# Altium footprint library ICs and SemiConductors.PcbLib: 61 footprints (part 3 of 4)
Each footprint in its own frame and in the unit in brackets; x right, y up, seen from the top. Pads: shape width x height; smd on the part's side, far side on the other; paste and mask are expansions set on the pad; w line width, h text height; cw(c..) or ccw(c..) is an arc to the next point about the centre after c.
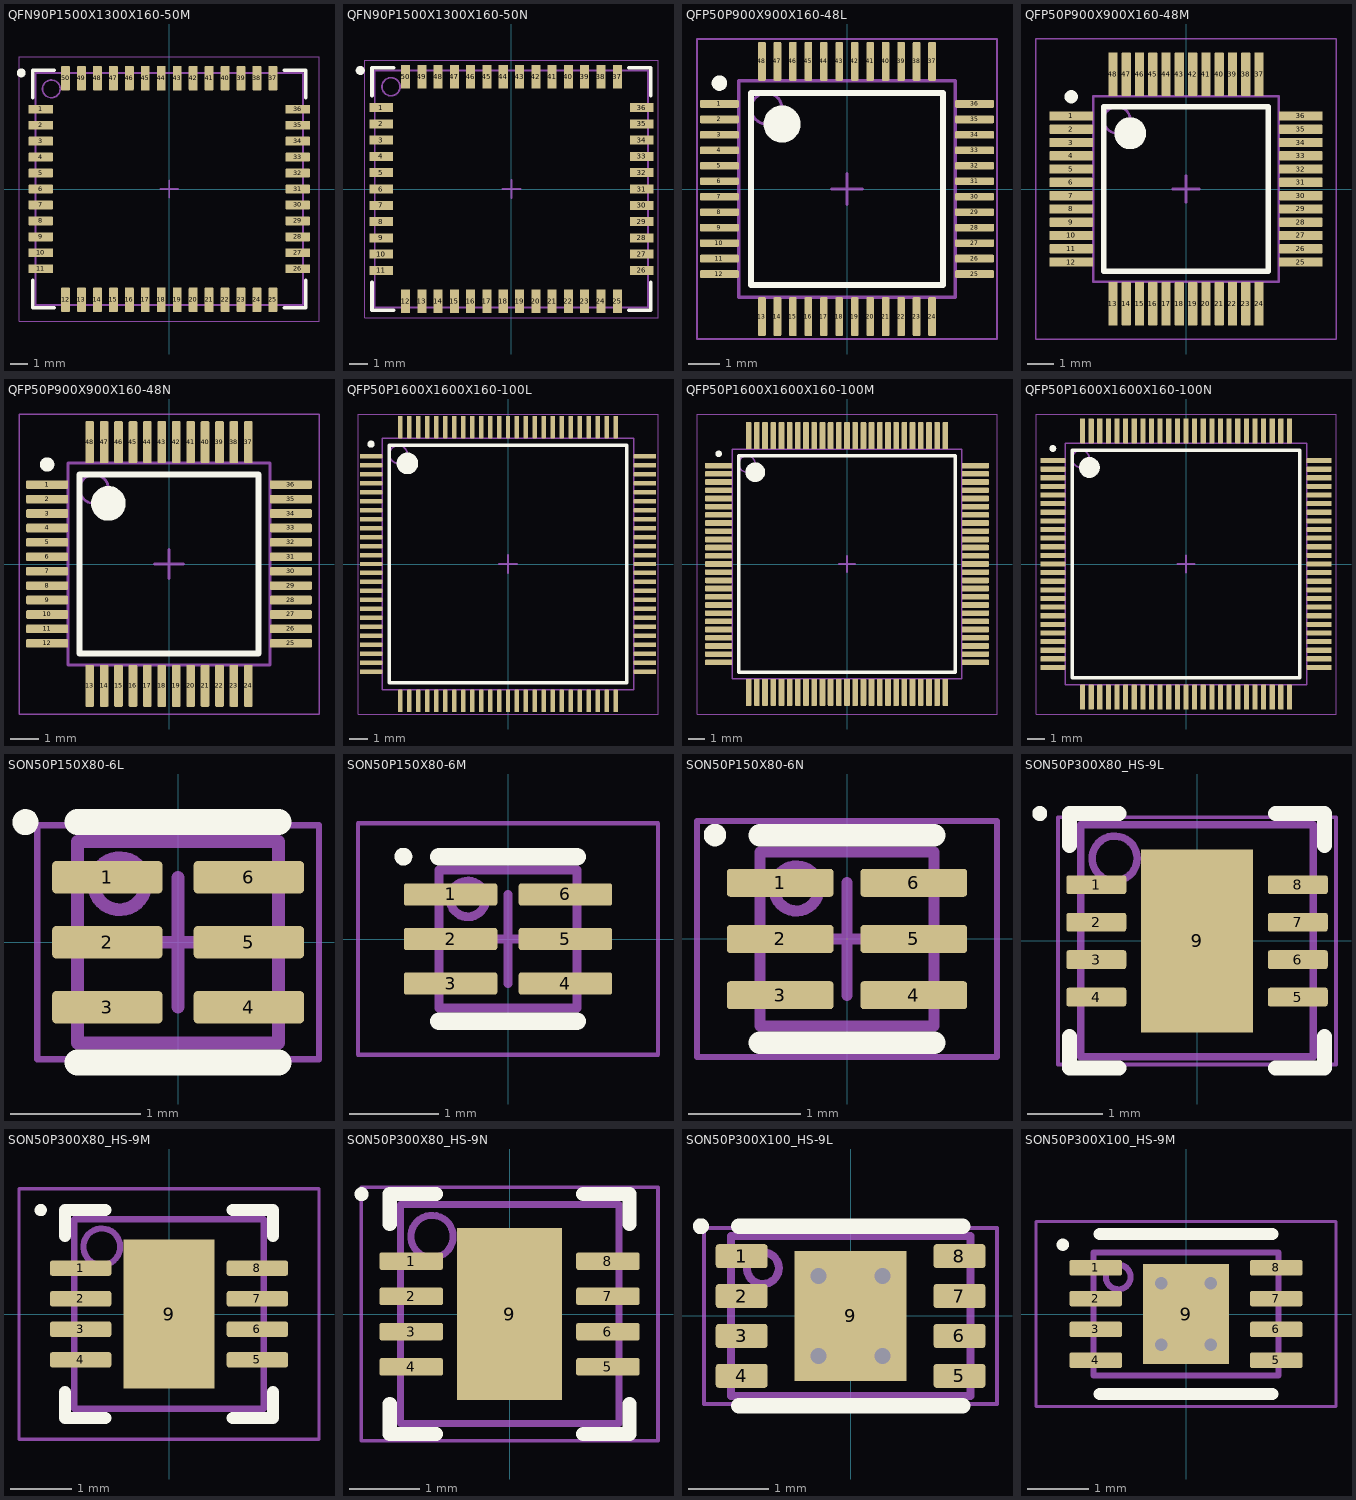
[diagram p2: the footprints below, top view; thin cyan lines are the x and y axes]

## QFN90P1500X1300X160-50M [mm] "QFN, 50-Leads, Body 15.00x13.00mm, Pitch 0.90mm, IPC Low Density"
height 1.6
pads (50):
  rrect25% 1.4x0.5 smd paste+0 mask+0.05: 1(-7.25,4.5) 2(-7.25,3.6) 3(-7.25,2.7) 4(-7.25,1.8) 5(-7.25,0.9) 6(-7.25,0) 7(-7.25,-0.9) 8(-7.25,-1.8) 9(-7.25,-2.7) 10(-7.25,-3.6) 11(-7.25,-4.5) 26(7.25,-4.5) 27(7.25,-3.6) 28(7.25,-2.7) 29(7.25,-1.8) 30(7.25,-0.9) 31(7.25,0) 32(7.25,0.9) 33(7.25,1.8) 34(7.25,2.7) 35(7.25,3.6) 36(7.25,4.5)
  rrect25% 0.5x1.4 smd paste+0 mask+0.05: 12(-5.85,-6.25) 13(-4.95,-6.25) 14(-4.05,-6.25) 15(-3.15,-6.25) 16(-2.25,-6.25) 17(-1.35,-6.25) 18(-0.45,-6.25) 19(0.45,-6.25) 20(1.35,-6.25) 21(2.25,-6.25) 22(3.15,-6.25) 23(4.05,-6.25) 24(4.95,-6.25) 25(5.85,-6.25) 37(5.85,6.25) 38(4.95,6.25) 39(4.05,6.25) 40(3.15,6.25) 41(2.25,6.25) 42(1.35,6.25) 43(0.45,6.25) 44(-0.45,6.25) 45(-1.35,6.25) 46(-2.25,6.25) 47(-3.15,6.25) 48(-4.05,6.25) 49(-4.95,6.25) 50(-5.85,6.25)
Top Overlay:
  circle w0.25: c-8.35,6.55 r0.125
  lines w0.2: -7.7,-5.15 -7.7,-6.7 -6.5,-6.7 ; -7.7,5.15 -7.7,6.7 -6.5,6.7 ; 6.5,-6.7 7.7,-6.7 7.7,-5.15 ; 6.5,6.7 7.7,6.7 7.7,5.15
Top Component Outline:
  lines w0.1: -7.55,-6.55 7.55,-6.55 7.55,6.55 -7.55,6.55 -7.55,-6.55
Top Courtyard:
  lines w0.05: -8.45,-7.45 -8.45,7.45 8.45,7.45 8.45,-7.45 -8.45,-7.45
Top Component Center:
  lines w0.1: -0.5,0 0.5,0 ; 0,-0.5 0,0.5
Top Designator:
  text ".Designator" at -4.04,-0.476 h2
Top Assembly:
  circle w0.1: c-6.65,5.65 r0.5
  lines w0.1: -7.55,-6.55 -7.55,6.55 7.55,6.55 7.55,-6.55 -7.55,-6.55
  text ".Designator" at -4.04,-0.476 h2
3D body "QFN90P1500X1300X160-50N.step": height 1.6, standoff 0, extent -7.551,-6.551 7.551,6.551

## QFN90P1500X1300X160-50N [mm] "QFN, 50-Leads, Body 15.00x13.00mm, Pitch 0.90mm, IPC Medium Density"
height 1.6
pads (50):
  rect 1.3x0.5 smd paste+0 mask+0.05: 1(-7.2,4.5) 2(-7.2,3.6) 3(-7.2,2.7) 4(-7.2,1.8) 5(-7.2,0.9) 6(-7.2,0) 7(-7.2,-0.9) 8(-7.2,-1.8) 9(-7.2,-2.7) 10(-7.2,-3.6) 11(-7.2,-4.5) 26(7.2,-4.5) 27(7.2,-3.6) 28(7.2,-2.7) 29(7.2,-1.8) 30(7.2,-0.9) 31(7.2,0) 32(7.2,0.9) 33(7.2,1.8) 34(7.2,2.7) 35(7.2,3.6) 36(7.2,4.5)
  rect 0.5x1.3 smd paste+0 mask+0.05: 12(-5.85,-6.2) 13(-4.95,-6.2) 14(-4.05,-6.2) 15(-3.15,-6.2) 16(-2.25,-6.2) 17(-1.35,-6.2) 18(-0.45,-6.2) 19(0.45,-6.2) 20(1.35,-6.2) 21(2.25,-6.2) 22(3.15,-6.2) 23(4.05,-6.2) 24(4.95,-6.2) 25(5.85,-6.2) 37(5.85,6.2) 38(4.95,6.2) 39(4.05,6.2) 40(3.15,6.2) 41(2.25,6.2) 42(1.35,6.2) 43(0.45,6.2) 44(-0.45,6.2) 45(-1.35,6.2) 46(-2.25,6.2) 47(-3.15,6.2) 48(-4.05,6.2) 49(-4.95,6.2) 50(-5.85,6.2)
Top Overlay:
  circle w0.25: c-8.35,6.55 r0.125
  lines w0.2: -7.7,-5.15 -7.7,-6.7 -6.5,-6.7 ; -7.7,5.15 -7.7,6.7 -6.5,6.7 ; 6.5,-6.7 7.7,-6.7 7.7,-5.15 ; 6.5,6.7 7.7,6.7 7.7,5.15
Top Component Outline:
  lines w0.1: -7.55,-6.55 -7.55,6.55 7.55,6.55 7.55,-6.55 -7.55,-6.55
Top Courtyard:
  lines w0.05: -8.1,-7.1 -8.1,7.1 8.1,7.1 8.1,-7.1 -8.1,-7.1
Top Component Center:
  lines w0.1: -0.5,0 0.5,0 ; 0,-0.5 0,0.5
Top Designator:
  text ".Designator" at -4.04,-0.476 h2
Top Assembly:
  circle w0.1: c-6.65,5.65 r0.5
  lines w0.1: -7.55,-6.55 -7.55,6.55 7.55,6.55 7.55,-6.55 -7.55,-6.55
  text ".Designator" at -4.04,-0.476 h2
3D body "QFN90P1500X1300X160-50N.step": height 1.6, standoff 0, extent -7.551,-6.551 7.551,6.551

## QFP50P900X900X160-48L [mm] "TSQFP, 48-Leads, Body 7.00x7.00mm, Pitch 0.50mm, IPC High Density"
height 1.6
pads (48):
  rrect25% 1.25x0.25 smd paste+0 mask+0.05: 1(-4.125,2.75) 2(-4.125,2.25) 3(-4.125,1.75) 4(-4.125,1.25) 5(-4.125,0.75) 6(-4.125,0.25) 7(-4.125,-0.25) 8(-4.125,-0.75) 9(-4.125,-1.25) 10(-4.125,-1.75) 11(-4.125,-2.25) 12(-4.125,-2.75) 25(4.125,-2.75) 26(4.125,-2.25) 27(4.125,-1.75) 28(4.125,-1.25) 29(4.125,-0.75) 30(4.125,-0.25) 31(4.125,0.25) 32(4.125,0.75) 33(4.125,1.25) 34(4.125,1.75) 35(4.125,2.25) 36(4.125,2.75)
  rrect25% 0.25x1.25 smd paste+0 mask+0.05: 13(-2.75,-4.125) 14(-2.25,-4.125) 15(-1.75,-4.125) 16(-1.25,-4.125) 17(-0.75,-4.125) 18(-0.25,-4.125) 19(0.25,-4.125) 20(0.75,-4.125) 21(1.25,-4.125) 22(1.75,-4.125) 23(2.25,-4.125) 24(2.75,-4.125) 37(2.75,4.125) 38(2.25,4.125) 39(1.75,4.125) 40(1.25,4.125) 41(0.75,4.125) 42(0.25,4.125) 43(-0.25,4.125) 44(-0.75,4.125) 45(-1.25,4.125) 46(-1.75,4.125) 47(-2.25,4.125) 48(-2.75,4.125)
Top Overlay:
  circle w0.25: c-4.125,3.425 r0.125
  circle w0.6: c-2.1,2.1 r0.3
  lines w0.2: -3.1,-3.1 -3.1,3.1 3.1,3.1 3.1,-3.1 -3.1,-3.1
Top Component Outline:
  lines w0.1: -3.5,-3.5 -3.5,3.5 3.5,3.5 3.5,-3.5 -3.5,-3.5
Top Courtyard:
  lines w0.05: -4.85,-4.85 -4.85,4.85 4.85,4.85 4.85,-4.85 -4.85,-4.85
Top Component Center:
  lines w0.1: -0.5,0 0.5,0 ; 0,-0.5 0,0.5
Top Designator:
  text ".Designator" at -4.04,-0.476 h2
Top Assembly:
  circle w0.1: c-2.6,2.6 r0.5
  lines w0.1: -3.5,-3.5 -3.5,3.5 3.5,3.5 3.5,-3.5 -3.5,-3.5
  text ".Designator" at -4.04,-0.476 h2
3D body "QFP50P900X900X160-48N.step": height 1.6, standoff 0, extent -4.5,-4.5 4.5,4.5

## QFP50P900X900X160-48M [mm] "TSQFP, 48-Leads, Body 7.00x7.00mm, Pitch 0.50mm, IPC Low Density"
height 1.6
pads (48):
  rrect25% 1.65x0.35 smd paste+0 mask+0.05: 1(-4.325,2.75) 2(-4.325,2.25) 3(-4.325,1.75) 4(-4.325,1.25) 5(-4.325,0.75) 6(-4.325,0.25) 7(-4.325,-0.25) 8(-4.325,-0.75) 9(-4.325,-1.25) 10(-4.325,-1.75) 11(-4.325,-2.25) 12(-4.325,-2.75) 25(4.325,-2.75) 26(4.325,-2.25) 27(4.325,-1.75) 28(4.325,-1.25) 29(4.325,-0.75) 30(4.325,-0.25) 31(4.325,0.25) 32(4.325,0.75) 33(4.325,1.25) 34(4.325,1.75) 35(4.325,2.25) 36(4.325,2.75)
  rrect25% 0.35x1.65 smd paste+0 mask+0.05: 13(-2.75,-4.325) 14(-2.25,-4.325) 15(-1.75,-4.325) 16(-1.25,-4.325) 17(-0.75,-4.325) 18(-0.25,-4.325) 19(0.25,-4.325) 20(0.75,-4.325) 21(1.25,-4.325) 22(1.75,-4.325) 23(2.25,-4.325) 24(2.75,-4.325) 37(2.75,4.325) 38(2.25,4.325) 39(1.75,4.325) 40(1.25,4.325) 41(0.75,4.325) 42(0.25,4.325) 43(-0.25,4.325) 44(-0.75,4.325) 45(-1.25,4.325) 46(-1.75,4.325) 47(-2.25,4.325) 48(-2.75,4.325)
Top Overlay:
  circle w0.6: c-2.1,2.1 r0.3
  circle w0.25: c-4.325,3.475 r0.125
  lines w0.2: -3.1,-3.1 3.1,-3.1 3.1,3.1 -3.1,3.1 -3.1,-3.1
Top Component Outline:
  lines w0.1: -3.5,-3.5 3.5,-3.5 3.5,3.5 -3.5,3.5 -3.5,-3.5
Top Courtyard:
  lines w0.05: -5.65,-5.65 5.65,-5.65 5.65,5.65 -5.65,5.65 -5.65,-5.65
Top Component Center:
  lines w0.1: -0.5,0 0.5,0 ; 0,-0.5 0,0.5
Top Designator:
  text ".Designator" at -4.04,-0.476 h2
Top Assembly:
  circle w0.1: c-2.6,2.6 r0.5
  lines w0.1: -3.5,-3.5 3.5,-3.5 3.5,3.5 -3.5,3.5 -3.5,-3.5
  text ".Designator" at -4.04,-0.476 h2
3D body "QFP50P900X900X160-48N.step": height 1.6, standoff 0, extent -4.5,-4.5 4.5,4.5

## QFP50P900X900X160-48N [mm] "TSQFP, 48-Leads, Body 7.00x7.00mm, Pitch 0.50mm, IPC Medium Density"
height 1.6
pads (48):
  rrect25% 1.45x0.3 smd paste+0 mask+0.05: 1(-4.225,2.75) 2(-4.225,2.25) 3(-4.225,1.75) 4(-4.225,1.25) 5(-4.225,0.75) 6(-4.225,0.25) 7(-4.225,-0.25) 8(-4.225,-0.75) 9(-4.225,-1.25) 10(-4.225,-1.75) 11(-4.225,-2.25) 12(-4.225,-2.75) 25(4.225,-2.75) 26(4.225,-2.25) 27(4.225,-1.75) 28(4.225,-1.25) 29(4.225,-0.75) 30(4.225,-0.25) 31(4.225,0.25) 32(4.225,0.75) 33(4.225,1.25) 34(4.225,1.75) 35(4.225,2.25) 36(4.225,2.75)
  rrect25% 0.3x1.45 smd paste+0 mask+0.05: 13(-2.75,-4.225) 14(-2.25,-4.225) 15(-1.75,-4.225) 16(-1.25,-4.225) 17(-0.75,-4.225) 18(-0.25,-4.225) 19(0.25,-4.225) 20(0.75,-4.225) 21(1.25,-4.225) 22(1.75,-4.225) 23(2.25,-4.225) 24(2.75,-4.225) 37(2.75,4.225) 38(2.25,4.225) 39(1.75,4.225) 40(1.25,4.225) 41(0.75,4.225) 42(0.25,4.225) 43(-0.25,4.225) 44(-0.75,4.225) 45(-1.25,4.225) 46(-1.75,4.225) 47(-2.25,4.225) 48(-2.75,4.225)
Top Overlay:
  circle w0.6: c-2.1,2.1 r0.3
  circle w0.25: c-4.225,3.45 r0.125
  lines w0.2: -3.1,-3.1 3.1,-3.1 3.1,3.1 -3.1,3.1 -3.1,-3.1
Top Component Outline:
  lines w0.1: -3.5,-3.5 3.5,-3.5 3.5,3.5 -3.5,3.5 -3.5,-3.5
Top Courtyard:
  lines w0.05: -5.2,-5.2 5.2,-5.2 5.2,5.2 -5.2,5.2 -5.2,-5.2
Top Component Center:
  lines w0.1: -0.5,0 0.5,0 ; 0,-0.5 0,0.5
Top Designator:
  text ".Designator" at -4.04,-0.476 h2
Top Assembly:
  circle w0.1: c-2.6,2.6 r0.5
  lines w0.1: -3.5,-3.5 3.5,-3.5 3.5,3.5 -3.5,3.5 -3.5,-3.5
  text ".Designator" at -4.04,-0.476 h2
3D body "QFP50P900X900X160-48N.step": height 1.6, standoff 0, extent -4.5,-4.5 4.5,4.5

## QFP50P1600X1600X160-100L [mm] "LQFP, 100-Leads, Body 14.00x14.00mm, Pitch 0.50mm, IPC High Density"
height 1.6
pads (100):
  rrect25% 1.25x0.25 smd paste+0 mask+0.05: 1(-7.625,6) 2(-7.625,5.5) 3(-7.625,5) 4(-7.625,4.5) 5(-7.625,4) 6(-7.625,3.5) 7(-7.625,3) 8(-7.625,2.5) 9(-7.625,2) 10(-7.625,1.5) 11(-7.625,1) 12(-7.625,0.5) 13(-7.625,0) 14(-7.625,-0.5) 15(-7.625,-1) 16(-7.625,-1.5) 17(-7.625,-2) 18(-7.625,-2.5) 19(-7.625,-3) 20(-7.625,-3.5) 21(-7.625,-4) 22(-7.625,-4.5) 23(-7.625,-5) 24(-7.625,-5.5) 25(-7.625,-6) 51(7.625,-6) 52(7.625,-5.5) 53(7.625,-5) 54(7.625,-4.5) 55(7.625,-4) 56(7.625,-3.5) 57(7.625,-3) 58(7.625,-2.5) 59(7.625,-2) 60(7.625,-1.5) 61(7.625,-1) 62(7.625,-0.5) 63(7.625,0) 64(7.625,0.5) 65(7.625,1) 66(7.625,1.5) 67(7.625,2) 68(7.625,2.5) 69(7.625,3) 70(7.625,3.5) 71(7.625,4) 72(7.625,4.5) 73(7.625,5) 74(7.625,5.5) 75(7.625,6)
  rrect25% 0.25x1.25 smd paste+0 mask+0.05: 26(-6,-7.625) 27(-5.5,-7.625) 28(-5,-7.625) 29(-4.5,-7.625) 30(-4,-7.625) 31(-3.5,-7.625) 32(-3,-7.625) 33(-2.5,-7.625) 34(-2,-7.625) 35(-1.5,-7.625) 36(-1,-7.625) 37(-0.5,-7.625) 38(0,-7.625) 39(0.5,-7.625) 40(1,-7.625) 41(1.5,-7.625) 42(2,-7.625) 43(2.5,-7.625) 44(3,-7.625) 45(3.5,-7.625) 46(4,-7.625) 47(4.5,-7.625) 48(5,-7.625) 49(5.5,-7.625) 50(6,-7.625) 76(6,7.625) 77(5.5,7.625) 78(5,7.625) 79(4.5,7.625) 80(4,7.625) 81(3.5,7.625) 82(3,7.625) 83(2.5,7.625) 84(2,7.625) 85(1.5,7.625) 86(1,7.625) 87(0.5,7.625) 88(0,7.625) 89(-0.5,7.625) 90(-1,7.625) 91(-1.5,7.625) 92(-2,7.625) 93(-2.5,7.625) 94(-3,7.625) 95(-3.5,7.625) 96(-4,7.625) 97(-4.5,7.625) 98(-5,7.625) 99(-5.5,7.625) 100(-6,7.625)
Top Overlay:
  circle w0.2: c-7.625,6.675 r0.1
  circle w0.6: c-5.6,5.6 r0.3
  lines w0.2: -6.6,-6.6 -6.6,6.6 6.6,6.6 6.6,-6.6 -6.6,-6.6
Top Component Outline:
  lines w0.1: -7,-7 -7,7 7,7 7,-7 -7,-7
Top Courtyard:
  lines w0.05: -8.35,-8.35 -8.35,8.35 8.35,8.35 8.35,-8.35 -8.35,-8.35
Top Component Center:
  lines w0.1: -0.5,0 0.5,0 ; 0,-0.5 0,0.5
Top Designator:
  text ".Designator" at -4.04,-0.476 h2
Top Assembly:
  circle w0.1: c-6.1,6.1 r0.5
  lines w0.1: -7,-7 -7,7 7,7 7,-7 -7,-7
  text ".Designator" at -4.04,-0.476 h2
3D body "QFP50P1600X1600X160-100N.step": height 1.6, standoff 0, extent -8,-8 8,8

## QFP50P1600X1600X160-100M [mm] "LQFP, 100-Leads, Body 14.00x14.00mm, Pitch 0.50mm, IPC Low Density"
height 1.6
pads (100):
  rrect25% 1.65x0.35 smd paste+0 mask+0.05: 1(-7.825,6) 2(-7.825,5.5) 3(-7.825,5) 4(-7.825,4.5) 5(-7.825,4) 6(-7.825,3.5) 7(-7.825,3) 8(-7.825,2.5) 9(-7.825,2) 10(-7.825,1.5) 11(-7.825,1) 12(-7.825,0.5) 13(-7.825,0) 14(-7.825,-0.5) 15(-7.825,-1) 16(-7.825,-1.5) 17(-7.825,-2) 18(-7.825,-2.5) 19(-7.825,-3) 20(-7.825,-3.5) 21(-7.825,-4) 22(-7.825,-4.5) 23(-7.825,-5) 24(-7.825,-5.5) 25(-7.825,-6) 51(7.825,-6) 52(7.825,-5.5) 53(7.825,-5) 54(7.825,-4.5) 55(7.825,-4) 56(7.825,-3.5) 57(7.825,-3) 58(7.825,-2.5) 59(7.825,-2) 60(7.825,-1.5) 61(7.825,-1) 62(7.825,-0.5) 63(7.825,0) 64(7.825,0.5) 65(7.825,1) 66(7.825,1.5) 67(7.825,2) 68(7.825,2.5) 69(7.825,3) 70(7.825,3.5) 71(7.825,4) 72(7.825,4.5) 73(7.825,5) 74(7.825,5.5) 75(7.825,6)
  rrect25% 0.35x1.65 smd paste+0 mask+0.05: 26(-6,-7.825) 27(-5.5,-7.825) 28(-5,-7.825) 29(-4.5,-7.825) 30(-4,-7.825) 31(-3.5,-7.825) 32(-3,-7.825) 33(-2.5,-7.825) 34(-2,-7.825) 35(-1.5,-7.825) 36(-1,-7.825) 37(-0.5,-7.825) 38(0,-7.825) 39(0.5,-7.825) 40(1,-7.825) 41(1.5,-7.825) 42(2,-7.825) 43(2.5,-7.825) 44(3,-7.825) 45(3.5,-7.825) 46(4,-7.825) 47(4.5,-7.825) 48(5,-7.825) 49(5.5,-7.825) 50(6,-7.825) 76(6,7.825) 77(5.5,7.825) 78(5,7.825) 79(4.5,7.825) 80(4,7.825) 81(3.5,7.825) 82(3,7.825) 83(2.5,7.825) 84(2,7.825) 85(1.5,7.825) 86(1,7.825) 87(0.5,7.825) 88(0,7.825) 89(-0.5,7.825) 90(-1,7.825) 91(-1.5,7.825) 92(-2,7.825) 93(-2.5,7.825) 94(-3,7.825) 95(-3.5,7.825) 96(-4,7.825) 97(-4.5,7.825) 98(-5,7.825) 99(-5.5,7.825) 100(-6,7.825)
Top Overlay:
  circle w0.6: c-5.6,5.6 r0.3
  circle w0.2: c-7.825,6.725 r0.1
  lines w0.2: -6.6,-6.6 6.6,-6.6 6.6,6.6 -6.6,6.6 -6.6,-6.6
Top Component Outline:
  lines w0.1: -7,-7 7,-7 7,7 -7,7 -7,-7
Top Courtyard:
  lines w0.05: -9.15,-9.15 9.15,-9.15 9.15,9.15 -9.15,9.15 -9.15,-9.15
Top Component Center:
  lines w0.1: -0.5,0 0.5,0 ; 0,-0.5 0,0.5
Top Designator:
  text ".Designator" at -4.04,-0.476 h2
Top Assembly:
  circle w0.1: c-6.1,6.1 r0.5
  lines w0.1: -7,-7 7,-7 7,7 -7,7 -7,-7
  text ".Designator" at -4.04,-0.476 h2
3D body "QFP50P1600X1600X160-100N.step": height 1.6, standoff 0, extent -8,-8 8,8

## QFP50P1600X1600X160-100N [mm] "LQFP, 100-Leads, Body 14.00x14.00mm, Pitch 0.50mm, IPC Medium Density"
height 1.6
pads (100):
  rrect25% 1.45x0.3 smd paste+0 mask+0.05: 1(-7.725,6) 2(-7.725,5.5) 3(-7.725,5) 4(-7.725,4.5) 5(-7.725,4) 6(-7.725,3.5) 7(-7.725,3) 8(-7.725,2.5) 9(-7.725,2) 10(-7.725,1.5) 11(-7.725,1) 12(-7.725,0.5) 13(-7.725,0) 14(-7.725,-0.5) 15(-7.725,-1) 16(-7.725,-1.5) 17(-7.725,-2) 18(-7.725,-2.5) 19(-7.725,-3) 20(-7.725,-3.5) 21(-7.725,-4) 22(-7.725,-4.5) 23(-7.725,-5) 24(-7.725,-5.5) 25(-7.725,-6) 51(7.725,-6) 52(7.725,-5.5) 53(7.725,-5) 54(7.725,-4.5) 55(7.725,-4) 56(7.725,-3.5) 57(7.725,-3) 58(7.725,-2.5) 59(7.725,-2) 60(7.725,-1.5) 61(7.725,-1) 62(7.725,-0.5) 63(7.725,0) 64(7.725,0.5) 65(7.725,1) 66(7.725,1.5) 67(7.725,2) 68(7.725,2.5) 69(7.725,3) 70(7.725,3.5) 71(7.725,4) 72(7.725,4.5) 73(7.725,5) 74(7.725,5.5) 75(7.725,6)
  rrect25% 0.3x1.45 smd paste+0 mask+0.05: 26(-6,-7.725) 27(-5.5,-7.725) 28(-5,-7.725) 29(-4.5,-7.725) 30(-4,-7.725) 31(-3.5,-7.725) 32(-3,-7.725) 33(-2.5,-7.725) 34(-2,-7.725) 35(-1.5,-7.725) 36(-1,-7.725) 37(-0.5,-7.725) 38(0,-7.725) 39(0.5,-7.725) 40(1,-7.725) 41(1.5,-7.725) 42(2,-7.725) 43(2.5,-7.725) 44(3,-7.725) 45(3.5,-7.725) 46(4,-7.725) 47(4.5,-7.725) 48(5,-7.725) 49(5.5,-7.725) 50(6,-7.725) 76(6,7.725) 77(5.5,7.725) 78(5,7.725) 79(4.5,7.725) 80(4,7.725) 81(3.5,7.725) 82(3,7.725) 83(2.5,7.725) 84(2,7.725) 85(1.5,7.725) 86(1,7.725) 87(0.5,7.725) 88(0,7.725) 89(-0.5,7.725) 90(-1,7.725) 91(-1.5,7.725) 92(-2,7.725) 93(-2.5,7.725) 94(-3,7.725) 95(-3.5,7.725) 96(-4,7.725) 97(-4.5,7.725) 98(-5,7.725) 99(-5.5,7.725) 100(-6,7.725)
Top Overlay:
  circle w0.2: c-7.725,6.7 r0.1
  circle w0.6: c-5.6,5.6 r0.3
  lines w0.2: -6.6,-6.6 -6.6,6.6 6.6,6.6 6.6,-6.6 -6.6,-6.6
Top Component Outline:
  lines w0.1: -7,-7 -7,7 7,7 7,-7 -7,-7
Top Courtyard:
  lines w0.05: -8.7,-8.7 -8.7,8.7 8.7,8.7 8.7,-8.7 -8.7,-8.7
Top Component Center:
  lines w0.1: -0.5,0 0.5,0 ; 0,-0.5 0,0.5
Top Designator:
  text ".Designator" at -4.04,-0.476 h2
Top Assembly:
  circle w0.1: c-6.1,6.1 r0.5
  lines w0.1: -7,-7 -7,7 7,7 7,-7 -7,-7
  text ".Designator" at -4.04,-0.476 h2
3D body "QFP50P1600X1600X160-100N.step": height 1.6, standoff 0, extent -8,-8 8,8

## SON50P150X80-6L [mm] "SON, 6-Leads, Body 1.50x1.50mm, Pitch 0.50mm, IPC High Density"
height 0.8
pads (6):
  rrect25% 0.85x0.25 smd paste+0 mask+0.05: 1(-0.545,0.5) 2(-0.545,0) 3(-0.545,-0.5) 4(0.545,-0.5) 5(0.545,0) 6(0.545,0.5)
Top Overlay:
  circle w0.1: c-1.175,0.925 r0.05
  lines w0.2: -0.775,-0.925 0.775,-0.925 ; -0.775,0.925 0.775,0.925
Top Component Outline:
  lines w0.1: -0.775,-0.775 -0.775,0.775 0.775,0.775 0.775,-0.775 -0.775,-0.775
Top Courtyard:
  lines w0.05: -1.085,-0.9 -1.085,0.9 1.085,0.9 1.085,-0.9 -1.085,-0.9
Top Component Center:
  lines w0.1: -0.5,0 0.5,0 ; 0,-0.5 0,0.5
Top Designator:
  text ".Designator" at -4.04,-0.476 h2
Top Assembly:
  circle w0.1: c-0.45,0.45 r0.2
  lines w0.1: -0.775,-0.775 -0.775,0.775 0.775,0.775 0.775,-0.775 -0.775,-0.775
  text ".Designator" at -4.04,-0.476 h2
3D body "SON50P150X80-6N.step": height 0.8, standoff 0, extent -0.776,-0.775 0.776,0.775

## SON50P150X80-6M [mm] "SON, 6-Leads, Body 1.50x1.50mm, Pitch 0.50mm, IPC Low Density"
height 0.8
pads (6):
  rrect25% 1.05x0.25 smd paste+0 mask+0.05: 1(-0.645,0.5) 2(-0.645,0) 3(-0.645,-0.5) 4(0.645,-0.5) 5(0.645,0) 6(0.645,0.5)
Top Overlay:
  circle w0.1: c-1.175,0.925 r0.05
  lines w0.2: -0.775,-0.925 0.775,-0.925 ; -0.775,0.925 0.775,0.925
Top Component Outline:
  lines w0.1: -0.775,-0.775 0.775,-0.775 0.775,0.775 -0.775,0.775 -0.775,-0.775
Top Courtyard:
  lines w0.05: -1.685,-1.3 -1.685,1.3 1.685,1.3 1.685,-1.3 -1.685,-1.3
Top Component Center:
  lines w0.1: -0.5,0 0.5,0 ; 0,-0.5 0,0.5
Top Designator:
  text ".Designator" at -4.04,-0.476 h2
Top Assembly:
  circle w0.1: c-0.45,0.45 r0.2
  lines w0.1: -0.775,-0.775 0.775,-0.775 0.775,0.775 -0.775,0.775 -0.775,-0.775
  text ".Designator" at -4.04,-0.476 h2
3D body "SON50P150X80-6N.step": height 0.8, standoff 0, extent -0.776,-0.775 0.776,0.775

## SON50P150X80-6N [mm] "SON, 6-Leads, Body 1.50x1.50mm, Pitch 0.50mm, IPC Medium Density"
height 0.8
pads (6):
  rrect25% 0.95x0.25 smd paste+0 mask+0.05: 1(-0.595,0.5) 2(-0.595,0) 3(-0.595,-0.5) 4(0.595,-0.5) 5(0.595,0) 6(0.595,0.5)
Top Overlay:
  circle w0.1: c-1.175,0.925 r0.05
  lines w0.2: -0.775,-0.925 0.775,-0.925 ; -0.775,0.925 0.775,0.925
Top Component Outline:
  lines w0.1: -0.775,-0.775 -0.775,0.775 0.775,0.775 0.775,-0.775 -0.775,-0.775
Top Courtyard:
  lines w0.05: -1.335,-1.05 -1.335,1.05 1.335,1.05 1.335,-1.05 -1.335,-1.05
Top Component Center:
  lines w0.1: -0.5,0 0.5,0 ; 0,-0.5 0,0.5
Top Designator:
  text ".Designator" at -4.04,-0.476 h2
Top Assembly:
  circle w0.1: c-0.45,0.45 r0.2
  lines w0.1: -0.775,-0.775 -0.775,0.775 0.775,0.775 0.775,-0.775 -0.775,-0.775
  text ".Designator" at -4.04,-0.476 h2
3D body "SON50P150X80-6N.step": height 0.8, standoff 0, extent -0.776,-0.775 0.776,0.775

## SON50P300X80_HS-9L [mm] "SON, 8-Leads, Body 3.00x3.00mm, Pitch 0.50mm, Thermal Pad 2.44x1.49mm, IPC High Density"
height 0.8
pads (9):
  rrect25% 0.8x0.25 smd paste+0 mask+0.05: 1(-1.345,0.75) 2(-1.345,0.25) 3(-1.345,-0.25) 4(-1.345,-0.75) 5(1.345,-0.75) 6(1.345,-0.25) 7(1.345,0.25) 8(1.345,0.75)
  rect 1.49x2.44 smd paste+0 mask+0.05: 9(0,0)
Top Overlay:
  circle w0.1: c-2.1,1.7 r0.05
  lines w0.2: -1.7,-1.275 -1.7,-1.7 -1.045,-1.7 ; -1.7,1.275 -1.7,1.7 -1.045,1.7 ; 1.045,-1.7 1.7,-1.7 1.7,-1.275 ; 1.045,1.7 1.7,1.7 1.7,1.275
Top Component Outline:
  lines w0.1: -1.55,-1.55 1.55,-1.55 1.55,1.55 -1.55,1.55 -1.55,-1.55
Top Courtyard:
  lines w0.05: -1.855,-1.65 -1.855,1.65 1.855,1.65 1.855,-1.65 -1.855,-1.65
Top Component Center:
  lines w0.1: -0.5,0 0.5,0 ; 0,-0.5 0,0.5
Top Designator:
  text ".Designator" at -4.04,-0.476 h2
Top Assembly:
  circle w0.1: c-1.1,1.1 r0.3
  lines w0.1: -1.55,-1.55 -1.55,1.55 1.55,1.55 1.55,-1.55 -1.55,-1.55
  text ".Designator" at -4.04,-0.476 h2
3D body "SON50P300X80_HS-9N.step": height 0.8, standoff 0, extent -1.57,-1.55 1.57,1.55

## SON50P300X80_HS-9M [mm] "SON, 8-Leads, Body 3.00x3.00mm, Pitch 0.50mm, Thermal Pad 2.44x1.49mm, IPC Low Density"
height 0.8
pads (9):
  rrect25% 1x0.25 smd paste+0 mask+0.05: 1(-1.445,0.75) 2(-1.445,0.25) 3(-1.445,-0.25) 4(-1.445,-0.75) 5(1.445,-0.75) 6(1.445,-0.25) 7(1.445,0.25) 8(1.445,0.75)
  rect 1.49x2.44 smd paste+0 mask+0.05: 9(0,0)
Top Overlay:
  circle w0.1: c-2.1,1.7 r0.05
  lines w0.2: -1.7,-1.275 -1.7,-1.7 -1.045,-1.7 ; -1.7,1.275 -1.7,1.7 -1.045,1.7 ; 1.045,-1.7 1.7,-1.7 1.7,-1.275 ; 1.045,1.7 1.7,1.7 1.7,1.275
Top Component Outline:
  lines w0.1: -1.55,-1.55 1.55,-1.55 1.55,1.55 -1.55,1.55 -1.55,-1.55
Top Courtyard:
  lines w0.05: -2.455,-2.05 -2.455,2.05 2.455,2.05 2.455,-2.05 -2.455,-2.05
Top Component Center:
  lines w0.1: -0.5,0 0.5,0 ; 0,-0.5 0,0.5
Top Designator:
  text ".Designator" at -4.04,-0.476 h2
Top Assembly:
  circle w0.1: c-1.1,1.1 r0.3
  lines w0.1: -1.55,-1.55 1.55,-1.55 1.55,1.55 -1.55,1.55 -1.55,-1.55
  text ".Designator" at -4.04,-0.476 h2
3D body "SON50P300X80_HS-9N.step": height 0.8, standoff 0, extent -1.57,-1.55 1.57,1.55

## SON50P300X80_HS-9N [mm] "SON, 8-Leads, Body 3.00x3.00mm, Pitch 0.50mm, Thermal Pad 2.44x1.49mm, IPC Medium Density"
height 0.8
pads (9):
  rrect25% 0.9x0.25 smd paste+0 mask+0.05: 1(-1.395,0.75) 2(-1.395,0.25) 3(-1.395,-0.25) 4(-1.395,-0.75) 5(1.395,-0.75) 6(1.395,-0.25) 7(1.395,0.25) 8(1.395,0.75)
  rect 1.49x2.44 smd paste+0 mask+0.05: 9(0,0)
Top Overlay:
  circle w0.1: c-2.1,1.7 r0.05
  lines w0.2: -1.7,-1.275 -1.7,-1.7 -1.045,-1.7 ; -1.7,1.275 -1.7,1.7 -1.045,1.7 ; 1.045,-1.7 1.7,-1.7 1.7,-1.275 ; 1.045,1.7 1.7,1.7 1.7,1.275
Top Component Outline:
  lines w0.1: -1.55,-1.55 -1.55,1.55 1.55,1.55 1.55,-1.55 -1.55,-1.55
Top Courtyard:
  lines w0.05: -2.105,-1.8 -2.105,1.8 2.105,1.8 2.105,-1.8 -2.105,-1.8
Top Component Center:
  lines w0.1: -0.5,0 0.5,0 ; 0,-0.5 0,0.5
Top Designator:
  text ".Designator" at -4.04,-0.476 h2
Top Assembly:
  circle w0.1: c-1.1,1.1 r0.3
  lines w0.1: -1.55,-1.55 -1.55,1.55 1.55,1.55 1.55,-1.55 -1.55,-1.55
  text ".Designator" at -4.04,-0.476 h2
3D body "SON50P300X80_HS-9N.step": height 0.8, standoff 0, extent -1.57,-1.55 1.57,1.55

## SON50P300X100_HS-9L [mm] "SON, 8-Leads, Body 2.00x3.00mm, Pitch 0.50mm, Thermal Pad 1.63x1.40mm, IPC High Density"
height 1
pads (9):
  rrect25% 0.65x0.3 smd paste+0 mask+0.05: 1(-1.365,0.75) 2(-1.365,0.25) 3(-1.365,-0.25) 4(-1.365,-0.75) 5(1.365,-0.75) 6(1.365,-0.25) 7(1.365,0.25) 8(1.365,0.75)
  rect 1.4x1.63 smd paste+0 mask+0.05: 9(0,0)
via -0.4,0.5 diameter 0.5 hole 0.2
via 0.4,0.5 diameter 0.5 hole 0.2
via 0.4,-0.5 diameter 0.5 hole 0.2
via -0.4,-0.5 diameter 0.5 hole 0.2
Top Overlay:
  circle w0.1: c-1.875,1.125 r0.05
  lines w0.2: -1.4,-1.125 1.4,-1.125 ; -1.4,1.125 1.4,1.125
Top Component Outline:
  lines w0.1: -1.5,-1 1.5,-1 1.5,1 -1.5,1 -1.5,-1
Top Courtyard:
  lines w0.05: -1.835,-1.1 1.835,-1.1 1.835,1.1 -1.835,1.1 -1.835,-1.1
Top Component Center:
  lines w0.1: -0.5,0 0.5,0 ; 0,-0.5 0,0.5
Top Designator:
  text ".Designator" at -4.04,-0.476 h2
Top Assembly:
  circle w0.1: c-1.1,0.6 r0.2
  lines w0.1: -1.5,-1 1.5,-1 1.5,1 -1.5,1 -1.5,-1
  text ".Designator" at -4.04,-0.476 h2
3D body "SON50P300X100_HS-9N.step": height 1, standoff 0, extent -1.501,-1 1.501,1

## SON50P300X100_HS-9M [mm] "SON, 8-Leads, Body 2.00x3.00mm, Pitch 0.50mm, Thermal Pad 1.63x1.40mm, IPC Low Density"
height 1
pads (9):
  rrect25% 0.85x0.25 smd paste+0 mask+0.05: 1(-1.465,0.75) 2(-1.465,0.25) 3(-1.465,-0.25) 4(-1.465,-0.75) 5(1.465,-0.75) 6(1.465,-0.25) 7(1.465,0.25) 8(1.465,0.75)
  rect 1.4x1.63 smd paste+0 mask+0.05: 9(0,0)
via -0.4,0.5 diameter 0.5 hole 0.2
via 0.4,0.5 diameter 0.5 hole 0.2
via 0.4,-0.5 diameter 0.5 hole 0.2
via -0.4,-0.5 diameter 0.5 hole 0.2
Top Overlay:
  circle w0.1: c-2,1.125 r0.05
  lines w0.2: -1.4,-1.3 1.4,-1.3 ; -1.4,1.3 1.4,1.3
Top Component Outline:
  lines w0.1: -1.5,-1 -1.5,1 1.5,1 1.5,-1 -1.5,-1
Top Courtyard:
  lines w0.05: -2.435,-1.5 2.435,-1.5 2.435,1.5 -2.435,1.5 -2.435,-1.5
Top Component Center:
  lines w0.1: -0.5,0 0.5,0 ; 0,-0.5 0,0.5
Top Designator:
  text ".Designator" at -4.04,-0.476 h2
Top Assembly:
  circle w0.1: c-1.1,0.6 r0.2
  lines w0.1: -1.5,-1 -1.5,1 1.5,1 1.5,-1 -1.5,-1
  text ".Designator" at -4.04,-0.476 h2
3D body "SON50P300X100_HS-9N.step": height 1, standoff 0, extent -1.501,-1 1.501,1